# Altium schematic symbol library Schlib1.SchLib: 1 symbol
Pins are listed as number, name and electrical type; pins without a type are passive.

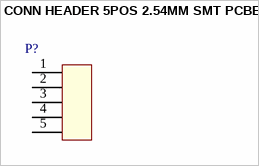
[diagram p0: symbol CONN HEADER 5POS 2.54MM SMT PCBEDGE]

## CONN HEADER 5POS 2.54MM SMT PCBEDGE
designator P?
CONN HEADER 5POS 2.54MM SMT PCBEDGE
footprint CONN HEADER 5POS 2.54MM SMT PCBEDGE
pins: 1, 2, 3, 4, 5